# EAGLE library part DRV8844PWP (library drv88xx)
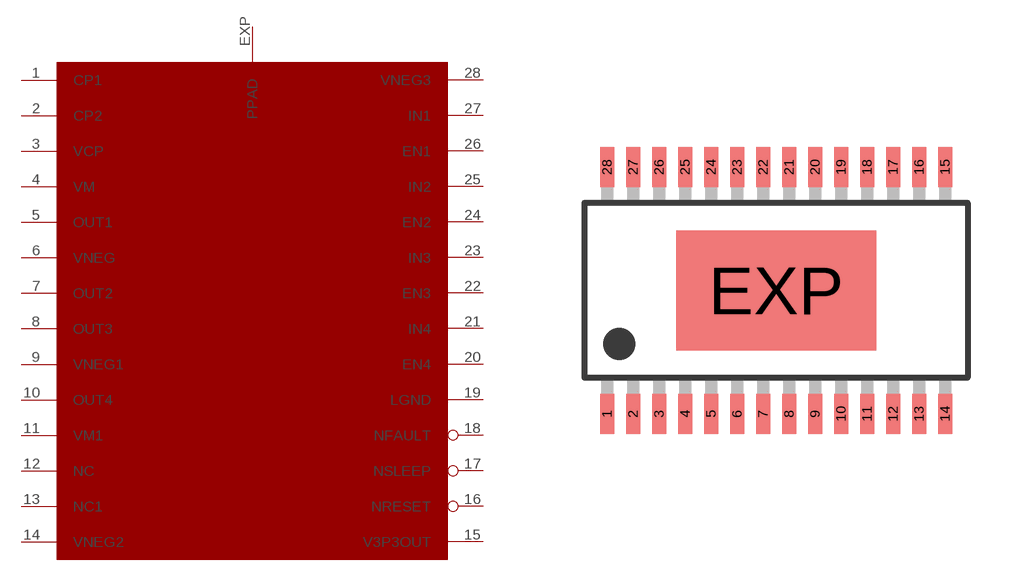
[diagram p1: symbol with the pads of TSSOP-28; footprint TSSOP-28]

Designator prefix -

## DRV8844PWP  [TSSOP-28]
1  CP1
2  CP2
3  VCP
4  VM
5  OUT1
6  VNEG
7  OUT2
8  OUT3
9  VNEG1
10  OUT4
11  VM1
12  NC
13  NC1
14  VNEG2
15  V3P3OUT
16  NRESET
17  NSLEEP
18  NFAULT
19  LGND
20  EN4
21  IN4
22  EN3
23  IN3
24  EN2
25  IN2
26  EN1
27  IN1
28  VNEG3
EXP  PPAD

## Footprint TSSOP-28 (pad centres in mm)
smd 0.35 x 1: 1 -4.225,-3.087; 2 -3.575,-3.087; 3 -2.925,-3.087; 4 -2.275,-3.087; 5 -1.625,-3.087; 6 -0.975,-3.087; 7 -0.325,-3.087; 8 0.325,-3.087; 9 0.975,-3.087; 10 1.625,-3.087; 11 2.275,-3.087; 12 2.925,-3.087; 13 3.575,-3.087; 14 4.225,-3.087; 15 4.225,3.087; 16 3.575,3.087; 17 2.925,3.087; 18 2.275,3.087; 19 1.625,3.087; 20 0.975,3.087; 21 0.325,3.087; 22 -0.325,3.087; 23 -0.975,3.087; 24 -1.625,3.087; 25 -2.275,3.087; 26 -2.925,3.087; 27 -3.575,3.087; 28 -4.225,3.087
smd 5 x 3: EXP 0,0